# Altium footprint library Button_Switch_SMD.PcbLib: 148 footprints (part 10 of 10)
Each footprint in its own frame and in the unit in brackets; x right, y up, seen from the top. Pads: shape width x height; smd on the part's side, far side on the other; paste and mask are expansions set on the pad; w line width, h text height; cw(c..) or ccw(c..) is an arc to the next point about the centre after c.
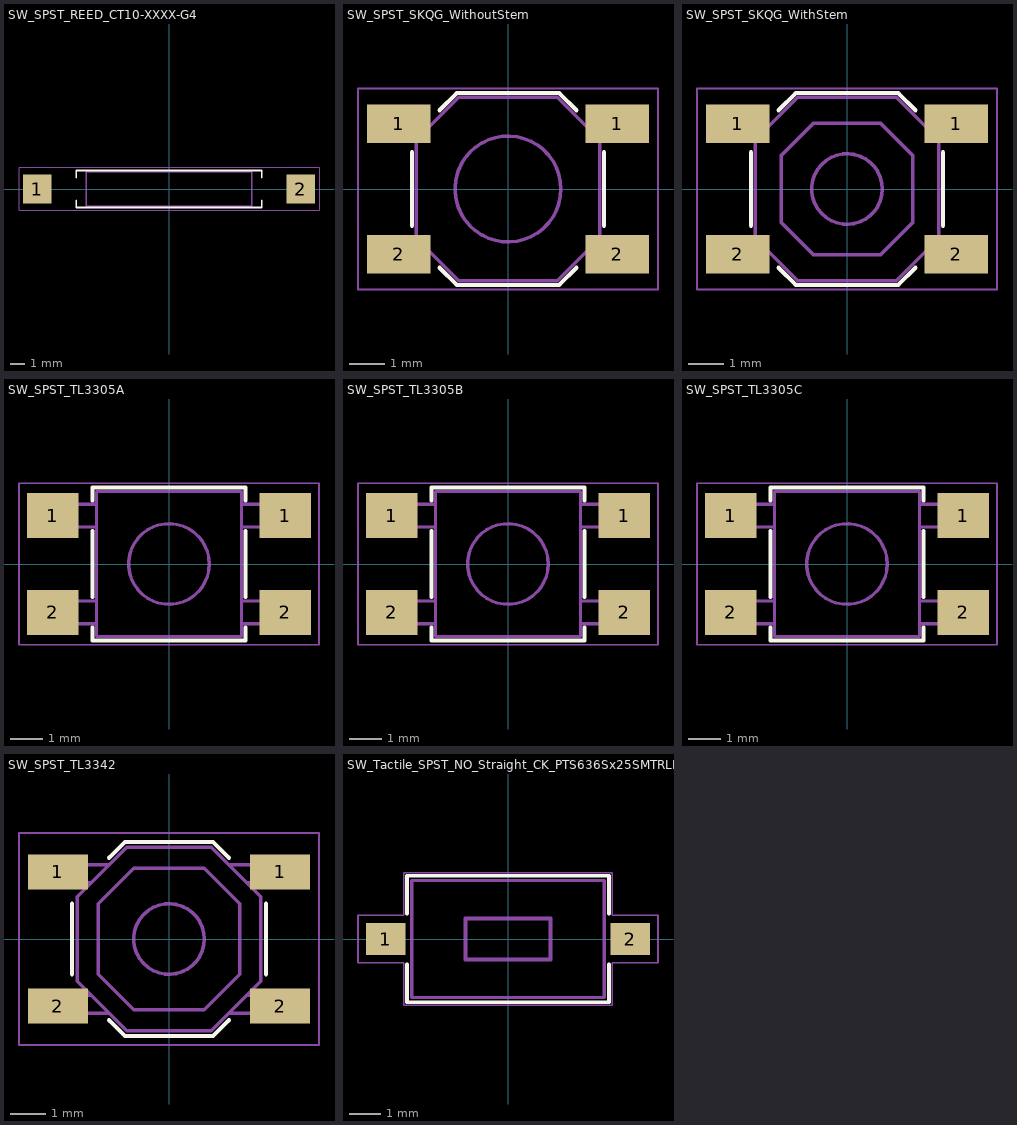
[diagram p9: the footprints below, top view; thin cyan lines are the x and y axes]

## SW_SPST_REED_CT10-XXXX-G4 [mm]
pads (2):
  rect 2x2 smd: 1(-9.22,0) 2(9.22,0)
F.SilkS:
  lines w0.12: -6.5,-0.8 -6.5,-1.3 6.5,-1.3 6.5,-0.8 ; -6.5,0.8 -6.5,1.3 6.5,1.3 6.5,0.8
F.CrtYd:
  lines w0.05: -10.5,-1.5 -10.5,1.5 10.5,1.5 10.5,-1.5 -10.5,-1.5
F.Fab:
  lines w0.1: -5.8,-1.2 -5.8,1.2 5.8,1.2 5.8,-1.2 -5.8,-1.2
  text "'.Designator'" at -4.047,-3.34 h1

## SW_SPST_SKQG_WithoutStem [mm]
pads (4):
  rect 1.8x1.1 smd: 1(-3.1,1.85) 1(3.1,1.85) 2(-3.1,-1.85) 2(3.1,-1.85)
F.SilkS:
  lines w0.12: -2.72,-1.04 -2.72,1.04 ; -1.94,-2.23 -1.45,-2.72 1.45,-2.72 1.94,-2.23 ; -1.94,2.23 -1.45,2.72 1.45,2.72 1.94,2.23 ; 2.72,-1.04 2.72,1.04
F.CrtYd:
  lines w0.05: -4.25,-2.85 4.25,-2.85 4.25,2.85 -4.25,2.85 -4.25,-2.85
F.Fab:
  circle w0.1: c0,0 r1.5
  lines w0.1: -2.6,-1.4 -1.4,-2.6 1.4,-2.6 2.6,-1.4 2.6,1.4 1.4,2.6 -1.4,2.6 -2.6,1.4 -2.6,-1.4
  text "'.Designator'" at -2.428,-0.504 h0.6
Cmts.User:
  text "KEEP-OUT ZONE" at 1.324,0.07 h0.2
  text "KEEP-OUT ZONE" at -3.676,0.07 h0.2
  text "No F.Cu tracks" at 1.47,-0.33 h0.2
  text "No F.Cu tracks" at -3.53,-0.33 h0.2

## SW_SPST_SKQG_WithStem [mm]
pads (4):
  rect 1.8x1.1 smd: 1(-3.1,1.85) 1(3.1,1.85) 2(-3.1,-1.85) 2(3.1,-1.85)
F.SilkS:
  lines w0.12: -2.72,-1.04 -2.72,1.04 ; -1.94,-2.23 -1.45,-2.72 1.45,-2.72 1.94,-2.23 ; -1.94,2.23 -1.45,2.72 1.45,2.72 1.94,2.23 ; 2.72,-1.04 2.72,1.04
F.CrtYd:
  lines w0.05: -4.25,-2.85 -4.25,2.85 4.25,2.85 4.25,-2.85 -4.25,-2.85
F.Fab:
  circle w0.1: c0,0 r1
  lines w0.1: -2.6,-1.4 -1.4,-2.6 1.4,-2.6 2.6,-1.4 2.6,1.4 1.4,2.6 -1.4,2.6 -2.6,1.4 -2.6,-1.4 ; -1.865,-0.95 -1.865,0.95 -0.95,1.865 0.95,1.865 1.865,0.95 1.865,-0.95 0.95,-1.865 -0.95,-1.865 -1.865,-0.95
  text "'.Designator'" at -1.619,-0.336 h0.4
Cmts.User:
  text "No F.Cu tracks" at 1.47,-0.33 h0.2
  text "No F.Cu tracks" at -3.53,-0.33 h0.2
  text "KEEP-OUT ZONE" at -3.676,0.07 h0.2
  text "KEEP-OUT ZONE" at 1.324,0.07 h0.2

## SW_SPST_TL3305A [mm]
pads (4):
  rect 1.6x1.4 smd: 1(-3.6,1.5) 1(3.6,1.5) 2(-3.6,-1.5) 2(3.6,-1.5)
F.SilkS:
  lines w0.12: -2.37,-1.97 -2.37,-2.37 2.37,-2.37 2.37,-1.97 ; -2.37,-1.03 -2.37,1.03 ; -2.37,1.97 -2.37,2.37 2.37,2.37 2.37,1.97 ; 2.37,-1.03 2.37,1.03
F.CrtYd:
  lines w0.05: -4.65,-2.5 4.65,-2.5 4.65,2.5 -4.65,2.5 -4.65,-2.5
F.Fab:
  circle w0.1: c0,0 r1.25
  lines w0.1: -3,-1.85 -3,-1.15 ; -3,1.15 -3,1.85 ; -2.25,-1.85 -3.75,-1.85 -3.75,-1.15 -2.25,-1.15 ; -2.25,1.15 -3.75,1.15 -3.75,1.85 -2.25,1.85 ; 2.25,-1.85 3.75,-1.85 3.75,-1.15 2.25,-1.15 ; 2.25,1.15 3.75,1.15 3.75,1.85 2.25,1.85 ; 3,-1.85 3,-1.15 ; 3,1.15 3,1.85 ; -2.25,-2.25 2.25,-2.25 2.25,2.25 -2.25,2.25 -2.25,-2.25
  text "'.Designator'" at -2.023,-0.42 h0.5

## SW_SPST_TL3305B [mm]
pads (4):
  rect 1.6x1.4 smd: 1(-3.6,1.5) 1(3.6,1.5) 2(-3.6,-1.5) 2(3.6,-1.5)
F.SilkS:
  lines w0.12: -2.37,-1.97 -2.37,-2.37 2.37,-2.37 2.37,-1.97 ; -2.37,-1.03 -2.37,1.03 ; -2.37,1.97 -2.37,2.37 2.37,2.37 2.37,1.97 ; 2.37,-1.03 2.37,1.03
F.CrtYd:
  lines w0.05: -4.65,-2.5 4.65,-2.5 4.65,2.5 -4.65,2.5 -4.65,-2.5
F.Fab:
  circle w0.1: c0,0 r1.25
  lines w0.1: -3,-1.85 -3,-1.15 ; -3,1.15 -3,1.85 ; -2.25,-1.85 -3.75,-1.85 -3.75,-1.15 -2.25,-1.15 ; -2.25,1.15 -3.75,1.15 -3.75,1.85 -2.25,1.85 ; 2.25,-1.85 3.75,-1.85 3.75,-1.15 2.25,-1.15 ; 2.25,1.15 3.75,1.15 3.75,1.85 2.25,1.85 ; 3,-1.85 3,-1.15 ; 3,1.15 3,1.85 ; -2.25,-2.25 -2.25,2.25 2.25,2.25 2.25,-2.25 -2.25,-2.25
  text "'.Designator'" at -2.023,-0.42 h0.5

## SW_SPST_TL3305C [mm]
pads (4):
  rect 1.6x1.4 smd: 1(-3.6,1.5) 1(3.6,1.5) 2(-3.6,-1.5) 2(3.6,-1.5)
F.SilkS:
  lines w0.12: -2.37,-1.97 -2.37,-2.37 2.37,-2.37 2.37,-1.97 ; -2.37,-1.03 -2.37,1.03 ; -2.37,1.97 -2.37,2.37 2.37,2.37 2.37,1.97 ; 2.37,-1.03 2.37,1.03
F.CrtYd:
  lines w0.05: -4.65,-2.5 -4.65,2.5 4.65,2.5 4.65,-2.5 -4.65,-2.5
F.Fab:
  circle w0.1: c0,0 r1.25
  lines w0.1: -3,-1.85 -3,-1.15 ; -3,1.15 -3,1.85 ; -2.25,-1.85 -3.75,-1.85 -3.75,-1.15 -2.25,-1.15 ; -2.25,1.15 -3.75,1.15 -3.75,1.85 -2.25,1.85 ; 2.25,-1.85 3.75,-1.85 3.75,-1.15 2.25,-1.15 ; 2.25,1.15 3.75,1.15 3.75,1.85 2.25,1.85 ; 3,-1.85 3,-1.15 ; 3,1.15 3,1.85 ; -2.25,-2.25 -2.25,2.25 2.25,2.25 2.25,-2.25 -2.25,-2.25
  text "'.Designator'" at -2.023,-0.42 h0.5

## SW_SPST_TL3342 [mm]
pads (4):
  rect 1.7x1 smd: 1(-3.15,1.9) 1(3.15,1.9) 2(-3.15,-1.9) 2(3.15,-1.9)
F.SilkS:
  lines w0.12: -2.75,-1 -2.75,1 ; -1.7,-2.3 -1.25,-2.75 1.25,-2.75 1.7,-2.3 ; -1.7,2.3 -1.25,2.75 1.25,2.75 1.7,2.3 ; 2.75,-1 2.75,1
F.CrtYd:
  lines w0.05: -4.25,-3 4.25,-3 4.25,3 -4.25,3 -4.25,-3
F.Fab:
  circle w0.1: c0,0 r1
  lines w0.1: -2.7,-2.1 -2.7,-1.6 ; -2.7,1.6 -2.7,2.1 ; -2.2,-1.6 -3.2,-1.6 -3.2,-2.1 -1.7,-2.1 ; -2.2,1.6 -3.2,1.6 -3.2,2.1 -1.7,2.1 ; 1.7,-2.1 3.2,-2.1 3.2,-1.6 2.2,-1.6 ; 1.7,2.1 3.2,2.1 3.2,1.6 2.2,1.6 ; 2.7,-2.1 2.7,-1.6 ; 2.7,1.6 2.7,2.1 ; -2.6,-1.2 -1.2,-2.6 1.2,-2.6 2.6,-1.2 2.6,1.2 1.2,2.6 -1.2,2.6 -2.6,1.2 -2.6,-1.2 ; -2,-1 -1,-2 1,-2 2,-1 2,1 1,2 -1,2 -2,1 -2,-1
  text "'.Designator'" at -4.047,2.91 h1

## SW_Tactile_SPST_NO_Straight_CK_PTS636Sx25SMTRLFS [mm]
pads (2):
  rect 1.25x1 smd: 1(-3.875,0) 2(3.875,0)
F.SilkS:
  lines w0.12: -3.2,-0.8 -3.2,-2 3.2,-2 3.2,-0.8 ; -3.2,0.8 -3.2,2 3.2,2 3.2,0.8
Dwgs.User:
  lines w0.12: -1.35,-0.65 -1.35,0.65 1.35,0.65 1.35,-0.65 -1.35,-0.65
F.CrtYd:
  lines w0.05: -4.75,-0.75 -4.75,0.75 -3.3,0.75 -3.3,2.1 3.3,2.1 3.3,0.75 4.75,0.75 4.75,-0.75 3.3,-0.75 3.3,-2.1 -3.3,-2.1 -3.3,-0.75 -4.75,-0.75
F.Fab:
  lines w0.1: -3.05,-1.85 -3.05,1.85 3.05,1.85 3.05,-1.85 -3.05,-1.85
  text "'.Designator'" at -2.048,-0.445 h0.5